# Altium footprint library lianchen_lib.PcbLib: 233 footprints (part 2 of 15)
Each footprint in its own frame and in the unit in brackets; x right, y up, seen from the top. Pads: shape width x height; smd on the part's side, far side on the other; paste and mask are expansions set on the pad; w line width, h text height; cw(c..) or ccw(c..) is an arc to the next point about the centre after c.
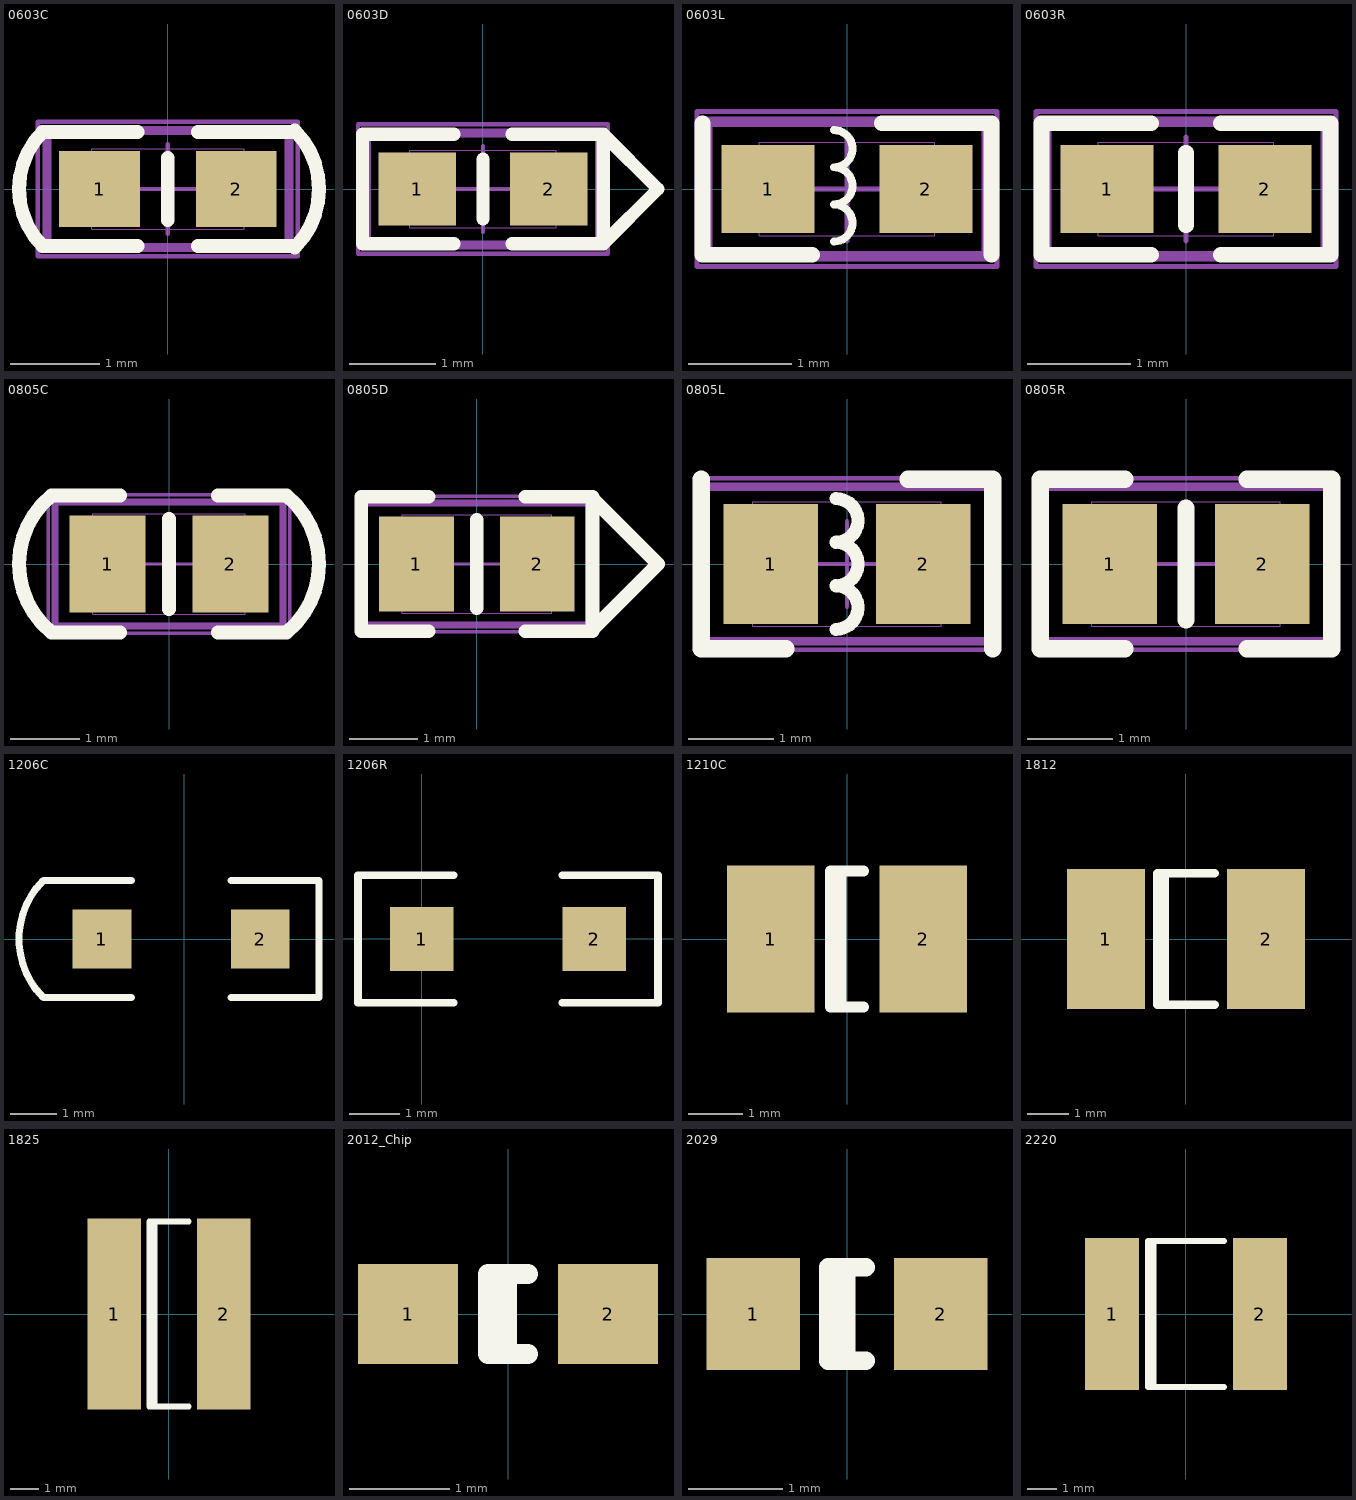
[diagram p1: the footprints below, top view; thin cyan lines are the x and y axes]

## 0603C [mm]
pads (2):
  rect 0.9x0.85 smd: 1(-0.762,0) 2(0.762,0)
Top Overlay:
  lines w0.152: -0.337,-0.635 -1.397,-0.635 cw(c-0.762,0) -1.397,0.635 -0.337,0.635 ; 0,-0.35 0,0.35 ; 0.337,-0.635 1.397,-0.635 ; 0.337,0.635 1.397,0.635 ; 1.416,-0.654 ccw(c0.762,0) 1.416,0.654
Mechanical 15:
  lines w0.1: -1.35,-0.65 -1.35,0.65 1.35,0.65 1.35,-0.65 -1.35,-0.65
  text "1" at -0.126,-0.345 h0.58
Mechanical 16:
  lines w0.001: -0.85,-0.45 -0.85,0.45 0.85,0.45 0.85,-0.45 -0.85,-0.45
  lines w0.05: -0.5,0 0.5,0 ; 0,-0.5 0,0.5 ; -1.45,-0.75 -1.45,0.75 1.45,0.75 1.45,-0.75 -1.45,-0.75
3D body "User Library-0603 SMD Resistor.STEP": height 0.3, standoff 0, extent -0.8,-0.4 0.8,0.4

## 0603D [mm]
pads (2):
  rect 0.9x0.85 smd: 1(-0.762,0) 2(0.762,0)
Top Overlay:
  lines w0.152: -0.337,-0.635 -1.397,-0.635 -1.397,0.635 -0.337,0.635 ; 0,-0.35 0,0.35 ; 0.337,-0.635 1.397,-0.635 ; 0.337,0.635 1.397,0.635 ; 1.397,-0.635 2.032,0 1.397,0.635 ; 1.397,-0.635 1.397,0.635
Mechanical 15:
  lines w0.1: -1.35,-0.65 -1.35,0.65 1.35,0.65 1.35,-0.65 -1.35,-0.65
  text "1" at -0.126,-0.345 h0.58
Mechanical 16:
  lines w0.001: -0.85,-0.45 -0.85,0.45 0.85,0.45 0.85,-0.45 -0.85,-0.45
  lines w0.05: -0.5,0 0.5,0 ; 0,-0.5 0,0.5 ; -1.45,-0.75 -1.45,0.75 1.45,0.75 1.45,-0.75 -1.45,-0.75
3D body "User Library-0603 SMD Resistor.STEP": height 0.3, standoff 0, extent -0.8,-0.4 0.8,0.4

## 0603L [mm]
height 0.025
pads (2):
  rect 0.9x0.85 smd: 1(-0.762,0) 2(0.762,0)
Top Overlay:
  lines w0.076: -0.127,-0.508 ccw(c-0.127,-0.328) -0.127,-0.149 ccw(c-0.127,0.031) -0.127,0.21 ccw(c-0.127,0.39) -0.127,0.57
  lines w0.152: -1.397,0.635 -1.397,-0.635 -0.337,-0.635 ; 0.337,0.635 1.397,0.635 1.397,-0.635
Mechanical 15:
  lines w0.1: -1.35,-0.65 -1.35,0.65 1.35,0.65 1.35,-0.65 -1.35,-0.65
  text "1" at -0.126,-0.345 h0.58
Mechanical 16:
  lines w0.001: -0.85,-0.45 -0.85,0.45 0.85,0.45 0.85,-0.45 -0.85,-0.45
  lines w0.05: -0.5,0 0.5,0 ; 0,-0.5 0,0.5 ; -1.45,-0.75 -1.45,0.75 1.45,0.75 1.45,-0.75 -1.45,-0.75
3D body "User Library-0603 SMD Resistor.STEP": height 0.3, standoff 0, extent -0.8,-0.4 0.8,0.4

## 0603R [mm]
pads (2):
  rect 0.9x0.85 smd: 1(-0.762,0) 2(0.762,0)
Top Overlay:
  lines w0.152: -0.337,-0.635 -1.397,-0.635 -1.397,0.635 -0.337,0.635 ; 0,-0.35 0,0.35 ; 0.337,-0.635 1.397,-0.635 1.397,0.635 0.337,0.635
Mechanical 15:
  lines w0.1: -1.35,-0.65 -1.35,0.65 1.35,0.65 1.35,-0.65 -1.35,-0.65
  text "1" at -0.126,-0.345 h0.58
Mechanical 16:
  lines w0.001: -0.85,-0.45 -0.85,0.45 0.85,0.45 0.85,-0.45 -0.85,-0.45
  lines w0.05: -0.5,0 0.5,0 ; 0,-0.5 0,0.5 ; -1.45,-0.75 -1.45,0.75 1.45,0.75 1.45,-0.75 -1.45,-0.75
3D body "User Library-0603 SMD Resistor.STEP": height 0.3, standoff 0, extent -0.8,-0.4 0.8,0.4

## 0805C [mm] "Chip Capacitor; Body 2.0 x 1.2 mm (LxW typ)"
height 1.1
pads (2):
  rect 1.1x1.4 smd: 1(-0.889,0) 2(0.889,0)
Top Overlay:
  lines w0.2: 0,-0.65 0,0.65
  lines w0.203: -0.711,-0.991 -1.702,-0.991 cw(c-0.889,0) -1.702,0.991 -0.711,0.991 ; 0.711,-0.991 1.702,-0.991 ccw(c0.889,0) 1.702,0.991 0.711,0.991
Mechanical 15:
  lines w0.1: -1.65,-0.9 -1.65,0.9 1.65,0.9 1.65,-0.9 -1.65,-0.9
  text "1" at -0.164,-0.45 h0.75
Mechanical 16:
  lines w0.001: -1.1,-0.725 -1.1,0.725 1.1,0.725 1.1,-0.725 -1.1,-0.725
  lines w0.05: -0.5,0 0.5,0 ; 0,-0.5 0,0.5 ; -1.75,-1 -1.75,1 1.75,1 1.75,-1 -1.75,-1
3D body "SW3dPS-0805 SMD Resistor.STEP": height 0.78, standoff 0, extent -1,-0.625 1,0.625

## 0805D [mm] "Chip Resistor; Body 2.0 x 1.3 mm (LxW typ)"
height 0.65
pads (2):
  rect 1.1x1.4 smd: 1(-0.889,0) 2(0.889,0)
Top Overlay:
  lines w0.2: 0,-0.65 0,0.65
  lines w0.203: -0.711,-0.991 -1.702,-0.991 -1.702,0.991 -0.711,0.991 ; 0.711,-0.991 1.702,-0.991 ; 0.711,0.991 1.702,0.991 ; 1.702,-0.991 1.702,0.991 ; 1.702,-0.991 1.702,-0.965 2.667,0 1.702,0.965 1.702,0.991
Mechanical 15:
  lines w0.1: -1.65,-0.9 1.65,-0.9 1.65,0.9 -1.65,0.9 -1.65,-0.9
  text "1" at -0.164,-0.45 h0.75
Mechanical 16:
  lines w0.001: -1.1,-0.725 1.1,-0.725 1.1,0.725 -1.1,0.725 -1.1,-0.725
  lines w0.05: -0.5,0 0.5,0 ; 0,-0.5 0,0.5 ; -1.75,-1 1.75,-1 1.75,1 -1.75,1 -1.75,-1
3D body "SW3dPS-0805 SMD Resistor.STEP": height 0.78, standoff 0, extent -1,-0.625 1,0.625

## 0805L [mm] "Chip Resistor; Body 2.0 x 1.3 mm (LxW typ)"
height 0.65
pads (2):
  rect 1.1x1.4 smd: 1(-0.889,0) 2(0.889,0)
Top Overlay:
  lines w0.152: -0.127,-0.762 ccw(c-0.127,-0.508) -0.127,-0.254 ccw(c-0.127,0) -0.127,0.254 ccw(c-0.127,0.508) -0.127,0.762
  lines w0.203: -1.702,0.991 -1.702,-0.991 -0.711,-0.991 ; 0.711,0.991 1.702,0.991 1.702,-0.991
Mechanical 15:
  lines w0.1: -1.65,-0.9 1.65,-0.9 1.65,0.9 -1.65,0.9 -1.65,-0.9
  text "1" at -0.164,-0.45 h0.75
Mechanical 16:
  lines w0.001: -1.1,-0.725 1.1,-0.725 1.1,0.725 -1.1,0.725 -1.1,-0.725
  lines w0.05: -0.5,0 0.5,0 ; 0,-0.5 0,0.5 ; -1.75,-1 1.75,-1 1.75,1 -1.75,1 -1.75,-1
3D body "SW3dPS-0805 SMD Resistor.STEP": height 0.78, standoff 0, extent -1,-0.625 1,0.625

## 0805R [mm] "Chip Resistor; Body 2.0 x 1.3 mm (LxW typ)"
height 0.65
pads (2):
  rect 1.1x1.4 smd: 1(-0.889,0) 2(0.889,0)
Top Overlay:
  lines w0.2: 0,-0.65 0,0.65
  lines w0.203: -0.711,-0.991 -1.702,-0.991 -1.702,0.991 -0.711,0.991 ; 0.711,-0.991 1.702,-0.991 1.702,0.991 0.711,0.991
Mechanical 15:
  lines w0.1: -1.65,-0.9 -1.65,0.9 1.65,0.9 1.65,-0.9 -1.65,-0.9
  text "1" at -0.164,-0.45 h0.75
Mechanical 16:
  lines w0.001: -1.1,-0.725 -1.1,0.725 1.1,0.725 1.1,-0.725 -1.1,-0.725
  lines w0.05: -0.5,0 0.5,0 ; 0,-0.5 0,0.5 ; -1.75,-1 -1.75,1 1.75,1 1.75,-1 -1.75,-1
3D body "SW3dPS-0805 SMD Resistor.STEP": height 0.78, standoff 0, extent -1,-0.625 1,0.625

## 1206C [mil] "Chip Capacitor; Body 3.2 x 1.6 mm (LxW typ)"
height 53.15
pads (2):
  rect 50x50 smd: 1(-70,0) 2(65,0)
Top Overlay:
  lines w6: -45,-50 -120,-50 cw(c-70,0) -120,50 -45,50 ; 40,-50 115,-50 115,50 40,50

## 1206R [mil]
pads (2):
  rect 50x50 smd: 1(0,0) 2(135,0)
Top Overlay:
  lines w6: 25,-50 -50,-50 -50,50 25,50 ; 110,-50 185,-50 185,50 110,50

## 1210C [mm] "Chip Capacitor; Body 3.2 x 2.5 mm (LxW typ)"
height 1.35
pads (2):
  rect 1.6x2.7 smd: 1(-1.4,0) 2(1.4,0)
Top Overlay:
  lines w0.2: -0.11,-1.25 -0.11,1.25 ; 0.3,-1.25 -0.3,-1.25 -0.3,1.25 0.3,1.25

## 1812 [mm] "Chip Capacitor; Body 4.5 x 3.2 mm (LxW typ)"
height 1.1
pads (2):
  rect 1.9x3.4 smd: 1(-1.95,0) 2(1.95,0)
Top Overlay:
  lines w0.2: -0.51,-1.6 -0.51,1.6 ; 0.7,-1.6 -0.7,-1.6 -0.7,1.6 0.7,1.6

## 1825 [mm] "Chip Capacitor; Body 4.5 x 6.4 mm (LxW typ)"
height 1.1
pads (2):
  rect 1.9x6.8 smd: 1(-1.95,0) 2(1.95,0)
Top Overlay:
  lines w0.2: -0.51,-3.3 -0.51,3.3 ; 0.7,-3.3 -0.7,-3.3 -0.7,3.3 0.7,3.3

## 2012_Chip [mm] "2012 Chip; Chip Inductor; Body 2.0 x 1.2 mm (LxW typ)"
height 0.55
pads (2):
  rect 1x1 smd: 1(-1,0) 2(1,0)
Top Overlay:
  lines w0.2: -0.01,-0.4 -0.01,0.4 ; 0.2,-0.4 -0.2,-0.4 -0.2,0.4 0.2,0.4

## 2029 [mm] "Chip Inductor; Body 2 x 1.2 mm (LxW typ)"
height 0.55
pads (2):
  rect 1x1.2 smd: 1(-1,0) 2(1,0)
Top Overlay:
  lines w0.2: -0.01,-0.5 -0.01,0.5 ; 0.2,-0.5 -0.2,-0.5 -0.2,0.5 0.2,0.5

## 2220 [mm] "Chip Capacitor; Body 5.7 x 5.0 mm (LxW typ)"
height 1.1
pads (2):
  rect 1.85x5.2 smd: 1(-2.525,0) 2(2.525,0)
Top Overlay:
  lines w0.2: -1.11,-2.5 -1.11,2.5 ; 1.3,-2.5 -1.3,-2.5 -1.3,2.5 1.3,2.5